# Altium schematic symbol library MY.SchLib: 652 symbols (part 7 of 7)
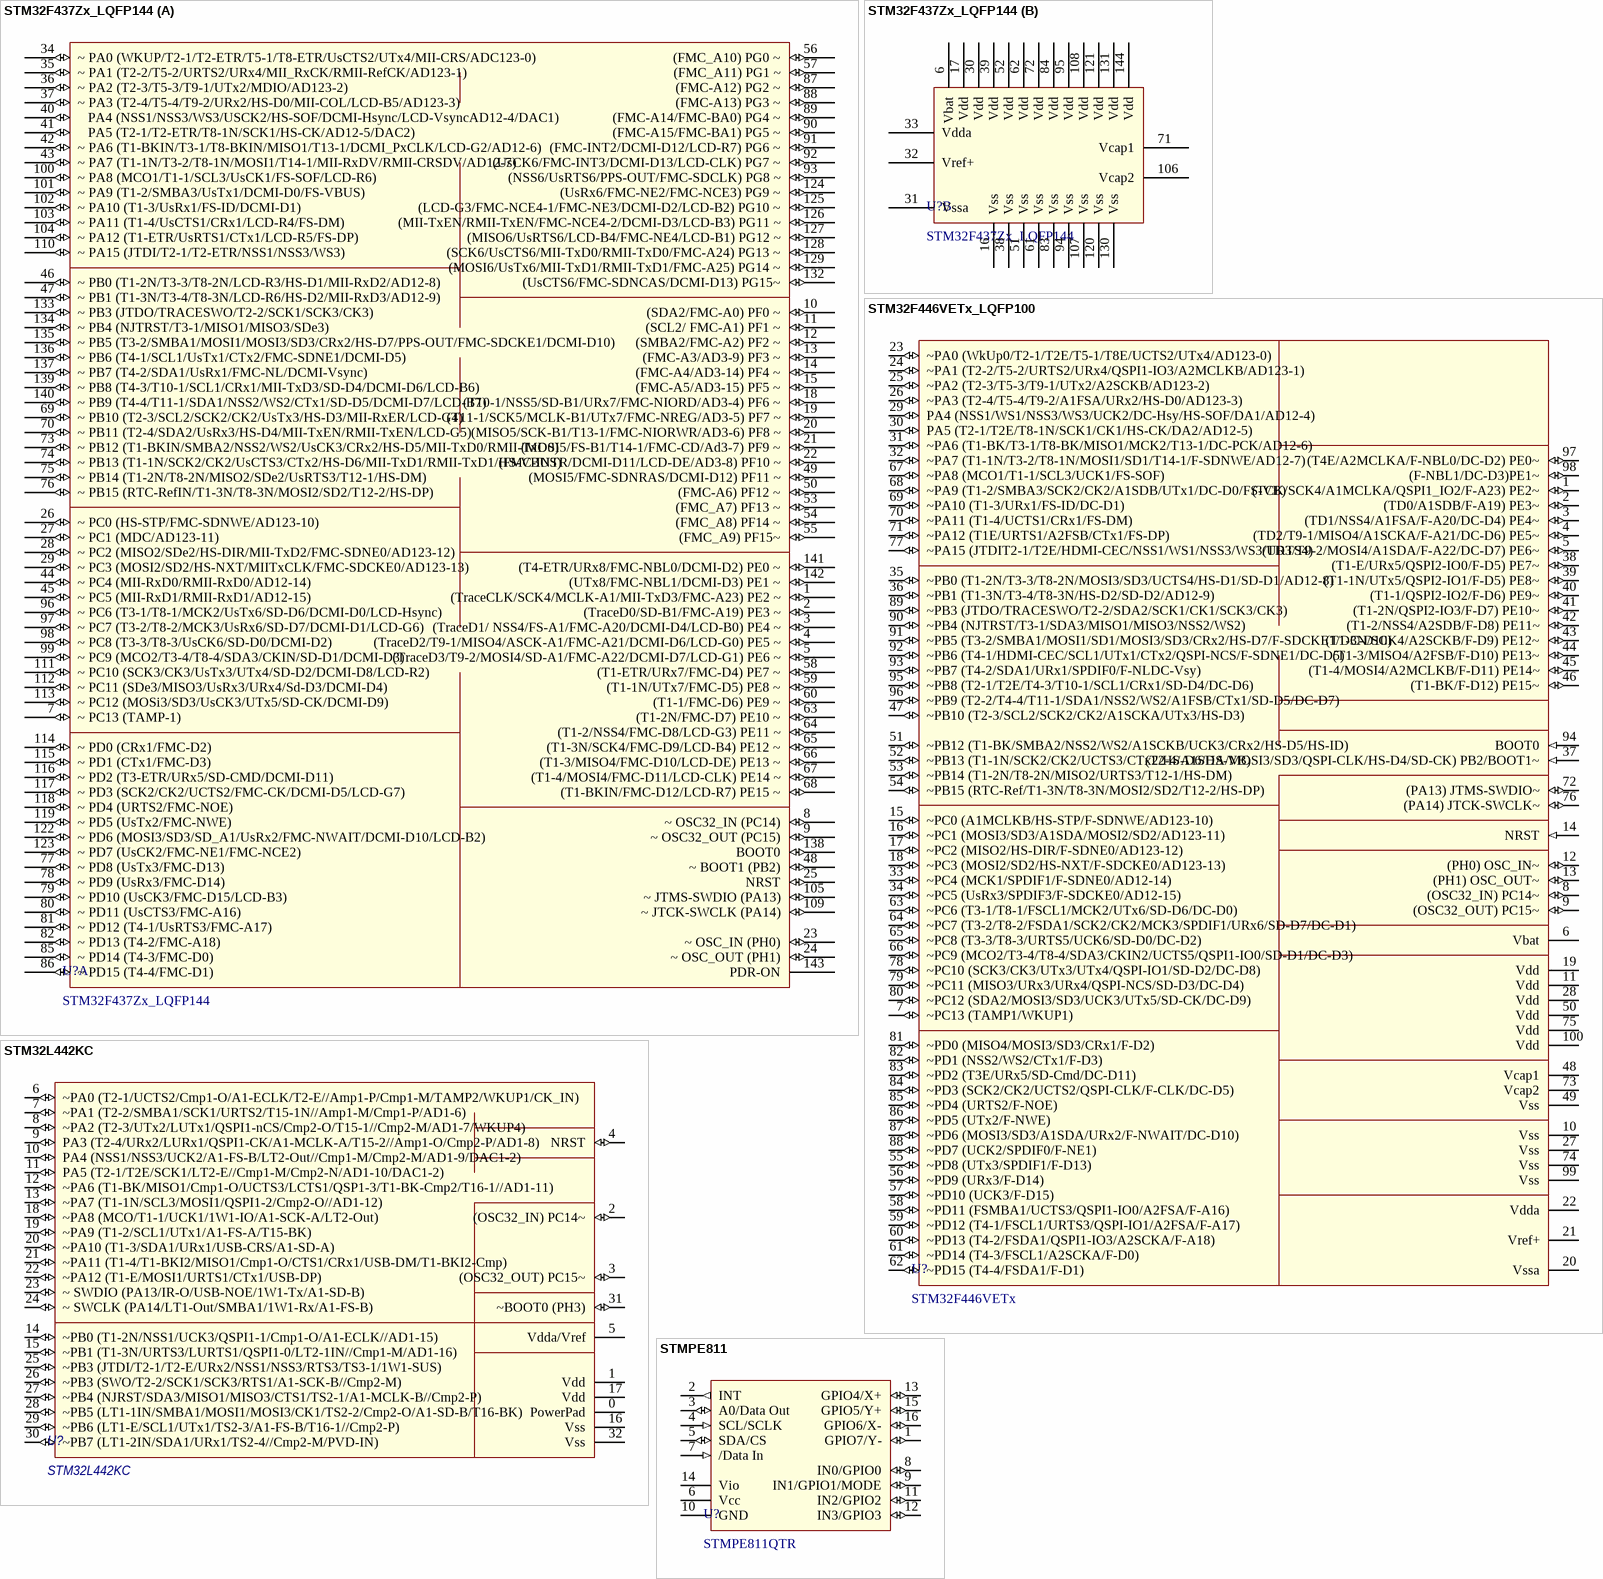
[diagram p47: symbols STM32F437Zx_LQFP144 to STMPE811]

## STM32F446VETx_LQFP100
designator U?, comment STM32F446VETx
HelpURL: L:\Dev\Техническая документация\Микроконтроллеры\ST\4xx\446\STM32F446x_datasheet.pdf; ComponentLink1Description: Datasheet; ComponentLink1URL: L:\Dev\Техническая документация\Микроконтроллеры\ST\4xx\446\STM32F446x_datasheet.pdf; ComponentLink2Description: Reference Manual; ComponentLink2URL: L:\Dev\Техническая документация\Микроконтроллеры\ST\4xx\446\STM32F446x_refmanual_RM0390.pdf
footprint LQFP100_UNICONT
pins: 1 (TCK/SCK4/A1MCLKA/QSPI1_IO2/F-A23) PE2~ (io), 2 (TD0/A1SDB/F-A19) PE3~ (io), 3 (TD1/NSS4/A1FSA/F-A20/DC-D4) PE4~ (io), 4 (TD2/T9-1/MISO4/A1SCKA/F-A21/DC-D6) PE5~ (io), 5 (TD3/T9-2/MOSI4/A1SDA/F-A22/DC-D7) PE6~ (io), 6 Vbat (power), 7 ~PC13 (TAMP1/WKUP1) (io), 8 (OSC32_IN) PC14~ (io), 9 (OSC32_OUT) PC15~ (io), 10 Vss (power), 11 Vdd (power), 12 (PH0) OSC_IN~ (io), 13 (PH1) OSC_OUT~ (io), 14 NRST (in), 15 ~PC0 (A1MCLKB/HS-STP/F-SDNWE/AD123-10) (io), 16 ~PC1 (MOSI3/SD3/A1SDA/MOSI2/SD2/AD123-11) (io), 17 ~PC2 (MISO2/HS-DIR/F-SDNE0/AD123-12) (io), 18 ~PC3 (MOSI2/SD2/HS-NXT/F-SDCKE0/AD123-13) (io), 19 Vdd (power), 20 Vssa (power), 21 Vref+ (power), 22 Vdda (power), 23 ~PA0 (WkUp0/T2-1/T2E/T5-1/T8E/UCTS2/UTx4/AD123-0) (io), 24 ~PA1 (T2-2/T5-2/URTS2/URx4/QSPI1-IO3/A2MCLKB/AD123-1) (io), 25 ~PA2 (T2-3/T5-3/T9-1/UTx2/A2SCKB/AD123-2) (io), 26 ~PA3 (T2-4/T5-4/T9-2/A1FSA/URx2/HS-D0/AD123-3) (io), 27 Vss (power), 28 Vdd (power), 29 PA4 (NSS1/WS1/NSS3/WS3/UCK2/DC-Hsy/HS-SOF/DA1/AD12-4) (io), 30 PA5 (T2-1/T2E/T8-1N/SCK1/CK1/HS-CK/DA2/AD12-5) (io), 31 ~PA6 (T1-BK/T3-1/T8-BK/MISO1/MCK2/T13-1/DC-PCK/AD12-6) (io), 32 ~PA7 (T1-1N/T3-2/T8-1N/MOSI1/SD1/T14-1/F-SDNWE/AD12-7) (io), 33 ~PC4 (MCK1/SPDIF1/F-SDNE0/AD12-14) (io), 34 ~PC5 (UsRx3/SPDIF3/F-SDCKE0/AD12-15) (io), 35 ~PB0 (T1-2N/T3-3/T8-2N/MOSI3/SD3/UCTS4/HS-D1/SD-D1/AD12-8) (io), 36 ~PB1 (T1-3N/T3-4/T8-3N/HS-D2/SD-D2/AD12-9) (io), 37 (T2-4/A1SDA/MOSI3/SD3/QSPI-CLK/HS-D4/SD-CK) PB2/BOOT1~ (in), 38 (T1-E/URx5/QSPI2-IO0/F-D5) PE7~ (io), 39 (T1-1N/UTx5/QSPI2-IO1/F-D5) PE8~ (io), 40 (T1-1/QSPI2-IO2/F-D6) PE9~ (io), 41 (T1-2N/QSPI2-IO3/F-D7) PE10~ (io), 42 (T1-2/NSS4/A2SDB/F-D8) PE11~ (io), 43 (T1-3N/SCK4/A2SCKB/F-D9) PE12~ (io), 44 (T1-3/MISO4/A2FSB/F-D10) PE13~ (io), 45 (T1-4/MOSI4/A2MCLKB/F-D11) PE14~ (io), 46 (T1-BK/F-D12) PE15~ (io), 47 ~PB10 (T2-3/SCL2/SCK2/CK2/A1SCKA/UTx3/HS-D3) (io), 48 Vcap1 (power), 49 Vss (power), 50 Vdd (power), 51 ~PB12 (T1-BK/SMBA2/NSS2/WS2/A1SCKB/UCK3/CRx2/HS-D5/HS-ID) (io) "ffgfgg", 52 ~PB13 (T1-1N/SCK2/CK2/UCTS3/CTx2/HS-D6/HS-VB) (io), 53 ~PB14 (T1-2N/T8-2N/MISO2/URTS3/T12-1/HS-DM) (io), 54 ~PB15 (RTC-Ref/T1-3N/T8-3N/MOSI2/SD2/T12-2/HS-DP) (io), 55 ~PD8 (UTx3/SPDIF1/F-D13) (io), 56 ~PD9 (URx3/F-D14) (io), 57 ~PD10 (UCK3/F-D15) (io), 58 ~PD11 (FSMBA1/UCTS3/QSPI1-IO0/A2FSA/F-A16) (io), 59 ~PD12 (T4-1/FSCL1/URTS3/QSPI-IO1/A2FSA/F-A17) (io), 60 ~PD13 (T4-2/FSDA1/QSPI1-IO3/A2SCKA/F-A18) (io), 61 ~PD14 (T4-3/FSCL1/A2SCKA/F-D0) (io), 62 ~PD15 (T4-4/FSDA1/F-D1) (io), 63 ~PC6 (T3-1/T8-1/FSCL1/MCK2/UTx6/SD-D6/DC-D0) (io), 64 ~PC7 (T3-2/T8-2/FSDA1/SCK2/CK2/MCK3/SPDIF1/URx6/SD-D7/DC-D1) (io), 65 ~PC8 (T3-3/T8-3/URTS5/UCK6/SD-D0/DC-D2) (io), 66 ~PC9 (MCO2/T3-4/T8-4/SDA3/CKIN2/UCTS5/QSPI1-IO0/SD-D1/DC-D3) (io), 67 ~PA8 (MCO1/T1-1/SCL3/UCK1/FS-SOF) (io), 68 ~PA9 (T1-2/SMBA3/SCK2/CK2/A1SDB/UTx1/DC-D0/FS-VB) (io), 69 ~PA10 (T1-3/URx1/FS-ID/DC-D1) (io), 70 ~PA11 (T1-4/UCTS1/CRx1/FS-DM) (io), 71 ~PA12 (T1E/URTS1/A2FSB/CTx1/FS-DP) (io), 72 (PA13) JTMS-SWDIO~ (io), 73 Vcap2 (power), 74 Vss (power), 75 Vdd (power), 76 (PA14) JTCK-SWCLK~ (io), 77 ~PA15 (JTDIT2-1/T2E/HDMI-CEC/NSS1/WS1/NSS3/WS3/URTS4) (io), 78 ~PC10 (SCK3/CK3/UTx3/UTx4/QSPI-IO1/SD-D2/DC-D8) (io), 79 ~PC11 (MISO3/URx3/URx4/QSPI-NCS/SD-D3/DC-D4) (io), 80 ~PC12 (SDA2/MOSI3/SD3/UCK3/UTx5/SD-CK/DC-D9) (io), 81 ~PD0 (MISO4/MOSI3/SD3/CRx1/F-D2) (io), 82 ~PD1 (NSS2/WS2/CTx1/F-D3) (io), 83 ~PD2 (T3E/URx5/SD-Cmd/DC-D11) (io), 84 ~PD3 (SCK2/CK2/UCTS2/QSPI-CLK/F-CLK/DC-D5) (io), 85 ~PD4 (URTS2/F-NOE) (io), 86 ~PD5 (UTx2/F-NWE) (io), 87 ~PD6 (MOSI3/SD3/A1SDA/URx2/F-NWAIT/DC-D10) (io), 88 ~PD7 (UCK2/SPDIF0/F-NE1) (io), 89 ~PB3 (JTDO/TRACESWO/T2-2/SDA2/SCK1/CK1/SCK3/CK3) (io), 90 ~PB4 (NJTRST/T3-1/SDA3/MISO1/MISO3/NSS2/WS2) (io), 91 ~PB5 (T3-2/SMBA1/MOSI1/SD1/MOSI3/SD3/CRx2/HS-D7/F-SDCKE1/DC-D10) (io), 92 ~PB6 (T4-1/HDMI-CEC/SCL1/UTx1/CTx2/QSPI-NCS/F-SDNE1/DC-D5) (io), 93 ~PB7 (T4-2/SDA1/URx1/SPDIF0/F-NLDC-Vsy) (io), 94 BOOT0 (in), 95 ~PB8 (T2-1/T2E/T4-3/T10-1/SCL1/CRx1/SD-D4/DC-D6) (io), 96 ~PB9 (T2-2/T4-4/T11-1/SDA1/NSS2/WS2/A1FSB/CTx1/SD-D5/DC-D7) (io), 97 (T4E/A2MCLKA/F-NBL0/DC-D2) PE0~ (io), 98 (F-NBL1/DC-D3)PE1~ (io), 99 Vss (power), 100 Vdd (power)

## STM32L442KC
designator U?
HelpURL: L:\Dev\Техническая документация\Микроконтроллеры\ST\L4xx\STM32L442KC\STM32L442KC_datasheet.pdf; ComponentLink1Description: Datasheet; ComponentLink1URL: L:\Dev\Техническая документация\Микроконтроллеры\ST\L4xx\STM32L442KC\STM32L442KC_datasheet.pdf; ComponentLink2Description: Reference Manual; ComponentLink2URL: L:\Dev\Техническая документация\Микроконтроллеры\ST\L4xx\STM32L442KC\STM32L442KC_RM0393_ref_manual.pdf
footprint UFQFN32_127P600-8N
pins: 0 PowerPad, 1 Vdd (power), 2 (OSC32_IN) PC14~ (io), 3 (OSC32_OUT) PC15~ (io), 4 NRST (io), 5 Vdda/Vref (power), 6 ~PA0 (T2-1/UCTS2/Cmp1-O/A1-ECLK/T2-E//Amp1-P/Cmp1-M/TAMP2/WKUP1/CK_IN) (io), 7 ~PA1 (T2-2/SMBA1/SCK1/URTS2/T15-1N//Amp1-M/Cmp1-P/AD1-6) (io), 8 ~PA2 (T2-3/UTx2/LUTx1/QSPI1-nCS/Cmp2-O/T15-1//Cmp2-M/AD1-7/WKUP4) (io), 9 PA3 (T2-4/URx2/LURx1/QSPI1-CK/A1-MCLK-A/T15-2//Amp1-O/Cmp2-P/AD1-8) (io), 10 PA4 (NSS1/NSS3/UCK2/A1-FS-B/LT2-Out//Cmp1-M/Cmp2-M/AD1-9/DAC1-2) (io), 11 PA5 (T2-1/T2E/SCK1/LT2-E//Cmp1-M/Cmp2-N/AD1-10/DAC1-2) (io), 12 ~PA6 (T1-BK/MISO1/Cmp1-O/UCTS3/LCTS1/QSP1-3/T1-BK-Cmp2/T16-1//AD1-11) (io), 13 ~PA7 (T1-1N/SCL3/MOSI1/QSPI1-2/Cmp2-O//AD1-12) (io), 14 ~PB0 (T1-2N/NSS1/UCK3/QSPI1-1/Cmp1-O/A1-ECLK//AD1-15) (io), 15 ~PB1 (T1-3N/URTS3/LURTS1/QSPI1-0/LT2-1IN//Cmp1-M/AD1-16) (io), 16 Vss (power), 17 Vdd (power), 18 ~PA8 (MCO/T1-1/UCK1/1W1-IO/A1-SCK-A/LT2-Out) (io), 19 ~PA9 (T1-2/SCL1/UTx1/A1-FS-A/T15-BK) (io), 20 ~PA10 (T1-3/SDA1/URx1/USB-CRS/A1-SD-A) (io), 21 ~PA11 (T1-4/T1-BKI2/MISO1/Cmp1-O/CTS1/CRx1/USB-DM/T1-BKI2-Cmp) (io), 22 ~PA12 (T1-E/MOSI1/URTS1/CTx1/USB-DP) (io), 23 ~ SWDIO (PA13/IR-O/USB-NOE/1W1-Tx/A1-SD-B) (io), 24 ~ SWCLK (PA14/LT1-Out/SMBA1/1W1-Rx/A1-FS-B) (io), 25 ~PB3 (JTDI/T2-1/T2-E/URx2/NSS1/NSS3/RTS3/TS3-1/1W1-SUS) (io), 26 ~PB3 (SWO/T2-2/SCK1/SCK3/RTS1/A1-SCK-B//Cmp2-M) (io), 27 ~PB4 (NJRST/SDA3/MISO1/MISO3/CTS1/TS2-1/A1-MCLK-B//Cmp2-P) (io), 28 ~PB5 (LT1-1IN/SMBA1/MOSI1/MOSI3/CK1/TS2-2/Cmp2-O/A1-SD-B/T16-BK) (io), 29 ~PB6 (LT1-E/SCL1/UTx1/TS2-3/A1-FS-B/T16-1//Cmp2-P) (io), 30 ~PB7 (LT1-2IN/SDA1/URx1/TS2-4//Cmp2-M/PVD-IN) (io), 31 ~BOOT0 (PH3) (io), 32 Vss (power)

## STMPE811
designator U?, comment STMPE811QTR
footprint QFN16_ST (QFN, 16-Leads, Body 3,00x3,00mm, Pitch 0,50mm, Thermal Pad 1,80x1,80mm, IPC High Density)
pins: 1 GPIO7/Y- (io), 2 INT (out), 3 A0/Data Out (io), 4 SCL/SCLK (in), 5 SDA/CS (io), 6 Vcc (power), 7 /Data In (in), 8 IN0/GPIO0 (io), 9 IN1/GPIO1/MODE (io), 10 GND (power), 11 IN2/GPIO2 (io), 12 IN3/GPIO3 (io), 13 GPIO4/X+ (io), 14 Vio (power), 15 GPIO5/Y+ (io), 16 GPIO6/X- (io)

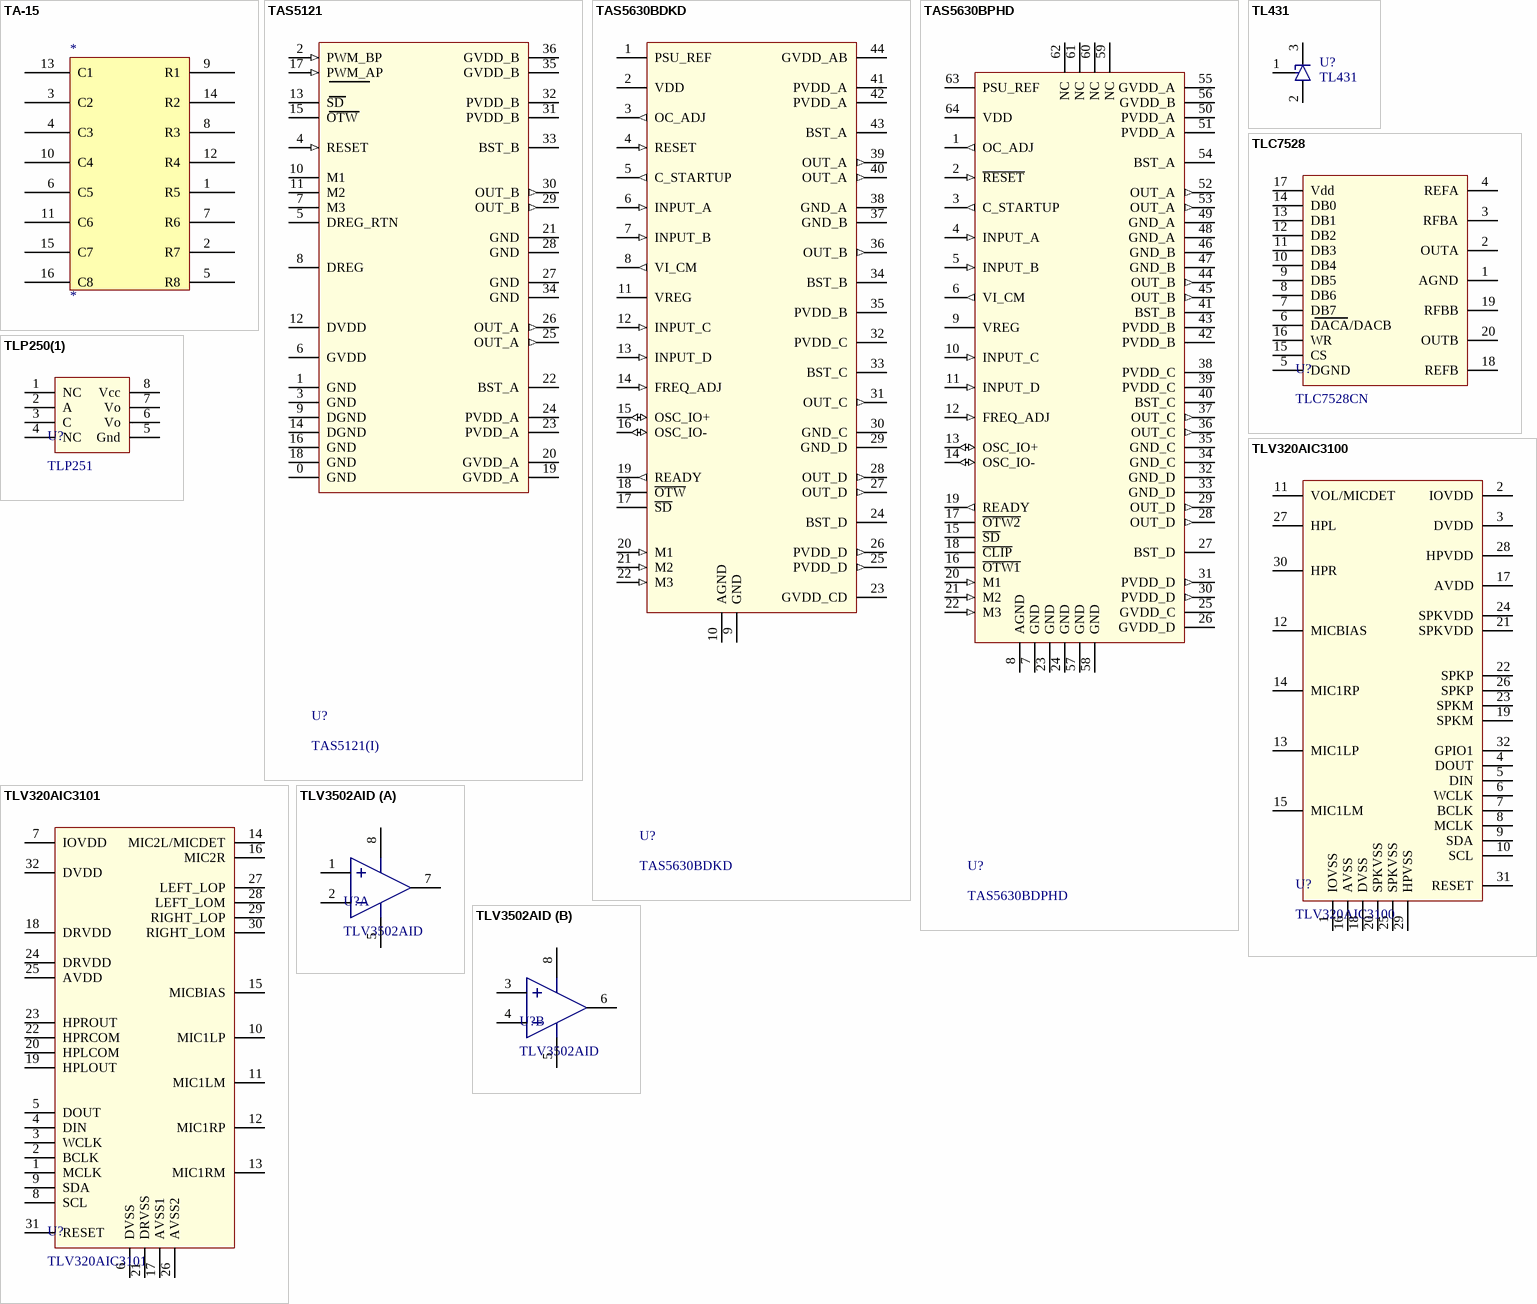
[diagram p38: symbols TA-15 to TLV3502AID]

## TA-15
designator *
footprint TA-15
pins: 1 R5, 2 R7, 3 C2, 4 C3, 5 R8, 6 C5, 7 R6, 8 R3, 9 R1, 10 C4, 11 C6, 12 R4, 13 C1, 14 R2, 15 C7, 16 C8
1 alternate drawing of the same symbol

## TAS5121
designator U?, comment TAS5121(I)
footprint HSSOP36
pins: 0 GND (power), 1 GND (power), 2 PWM_BP (in), 3 GND (power), 4 RESET (in), 5 DREG_RTN (power), 6 GVDD (power), 7 M3 (power), 8 DREG (power), 9 DGND (power), 10 M1 (power), 11 M2 (power), 12 DVDD (power), 13 SD (oc), 14 DGND (power), 15 OTW (oc), 16 GND (power), 17 PWM_AP (in), 18 GND (power), 19 GVDD_A (power), 20 GVDD_A (power), 21 GND (power), 22 BST_A (power), 23 PVDD_A (power), 24 PVDD_A (power), 25 OUT_A (out), 26 OUT_A (out), 27 GND (power), 28 GND (power), 29 OUT_B (out), 30 OUT_B (out), 31 PVDD_B (power), 32 PVDD_B (power), 33 BST_B (power), 34 GND (power), 35 GVDD_B (power), 36 GVDD_B (power)

## TAS5630BDKD
designator U?
footprint HSSOP44
pins: 1 PSU_REF (power), 2 VDD (power), 3 OC_ADJ (out), 4 RESET (in), 5 C_STARTUP (out), 6 INPUT_A (in), 7 INPUT_B (in), 8 VI_CM (out), 9 GND (power), 10 AGND (power), 11 VREG (power), 12 INPUT_C (in), 13 INPUT_D (in), 14 FREQ_ADJ (in), 15 OSC_IO+ (io), 16 OSC_IO- (io), 17 ~{SD} (oc), 18 ~{OTW} (oc), 19 READY (out), 20 M1 (in), 21 M2 (in), 22 M3 (in), 23 GVDD_CD (power), 24 BST_D (power), 25 PVDD_D (out), 26 PVDD_D (out), 27 OUT_D (out), 28 OUT_D (out), 29 GND_D (power), 30 GND_C (power), 31 OUT_C (out), 32 PVDD_C (power), 33 BST_C (power), 34 BST_B (power), 35 PVDD_B (power), 36 OUT_B (out), 37 GND_B (power), 38 GND_A (power), 39 OUT_A (out), 40 OUT_A (out), 41 PVDD_A (power), 42 PVDD_A (power), 43 BST_A (power), 44 GVDD_AB (power)

## TAS5630BPHD
designator U?, comment TAS5630BDPHD
footprint PQFP64
pins: 1 OC_ADJ (out), 2 ~{RESET} (in), 3 C_STARTUP (out), 4 INPUT_A (in), 5 INPUT_B (in), 6 VI_CM (out), 7 GND (power), 8 AGND (power), 9 VREG (power), 10 INPUT_C (in), 11 INPUT_D (in), 12 FREQ_ADJ (in), 13 OSC_IO+ (io), 14 OSC_IO- (io), 15 ~{SD} (oc), 16 ~{OTW1} (oc), 17 ~{OTW2} (oc), 18 ~{CLIP} (oc), 19 READY (out), 20 M1 (in), 21 M2 (in), 22 M3 (in), 23 GND (power), 24 GND (power), 25 GVDD_C (power), 26 GVDD_D (power), 27 BST_D (power), 28 OUT_D (out), 29 OUT_D (out), 30 PVDD_D (out), 31 PVDD_D (out), 32 GND_D (power), 33 GND_D (power), 34 GND_C (power), 35 GND_C (power), 36 OUT_C (out), 37 OUT_C (out), 38 PVDD_C (power), 39 PVDD_C (power), 40 BST_C (power), 41 BST_B (power), 42 PVDD_B (power), 43 PVDD_B (power), 44 OUT_B (out), 45 OUT_B (out), 46 GND_B (power), 47 GND_B (power), 48 GND_A (power), 49 GND_A (power), 50 PVDD_A (power), 51 PVDD_A (power), 52 OUT_A (out), 53 OUT_A (out), 54 BST_A (power), 55 GVDD_A (power), 56 GVDD_B (power), 57 GND (power), 58 GND (power), 59 NC, 60 NC, 61 NC, 62 NC, 63 PSU_REF (power), 64 VDD (power)

## TL431
designator U?
footprint TO-92
pins: 1, 2, 3

## TLC7528
designator U?, comment TLC7528CN
footprint DIP20
pins: 1 AGND, 2 OUTA, 3 RFBA, 4 REFA, 5 DGND, 6 DACA/DACB, 7 DB7, 8 DB6, 9 DB5, 10 DB4, 11 DB3, 12 DB2, 13 DB1, 14 DB0, 15 CS, 16 WR, 17 Vdd, 18 REFB, 19 RFBB, 20 OUTB

## TLP250(1)
designator U?, comment TLP251
footprint DIP8
pins: 1 NC, 2 A, 3 C, 4 NC, 5 Gnd, 6 Vo, 7 Vo, 8 Vcc

## TLV320AIC3100
designator U?
footprint PQFP-N32
pins: 1 IOVSS, 2 IOVDD, 3 DVDD, 4 DOUT, 5 DIN, 6 WCLK, 7 BCLK, 8 MCLK, 9 SDA, 10 SCL, 11 VOL/MICDET, 12 MICBIAS, 13 MIC1LP, 14 MIC1RP, 15 MIC1LM, 16 AVSS, 17 AVDD, 18 DVSS, 19 SPKM, 20 SPKVSS, 21 SPKVDD, 22 SPKP, 23 SPKM, 24 SPKVDD, 25 SPKVSS, 26 SPKP, 27 HPL, 28 HPVDD, 29 HPVSS, 30 HPR, 31 RESET, 32 GPIO1

## TLV320AIC3101
designator U?
footprint PQFP-N32
pins: 0 (power), 1 MCLK, 2 BCLK, 3 WCLK, 4 DIN, 5 DOUT, 6 DVSS, 7 IOVDD, 8 SCL, 9 SDA, 10 MIC1LP, 11 MIC1LM, 12 MIC1RP, 13 MIC1RM, 14 MIC2L/MICDET, 15 MICBIAS, 16 MIC2R, 17 AVSS1, 18 DRVDD, 19 HPLOUT, 20 HPLCOM, 21 DRVSS, 22 HPRCOM, 23 HPROUT, 24 DRVDD, 25 AVDD, 26 AVSS2, 27 LEFT_LOP, 28 LEFT_LOM, 29 RIGHT_LOP, 30 RIGHT_LOM, 31 RESET, 32 DVDD

## TLV3502AID
designator U?
footprint SO8
part A pins: 1 +IN1 (power), 2 -IN1 (power), 5 GND (power), 7 OUT1 (power), 8 Vcc (power)
part B pins: 3 +IN2 (power), 4 -IN2 (power), 5 GND (power), 6 OUT2 (power), 8 Vcc (power)

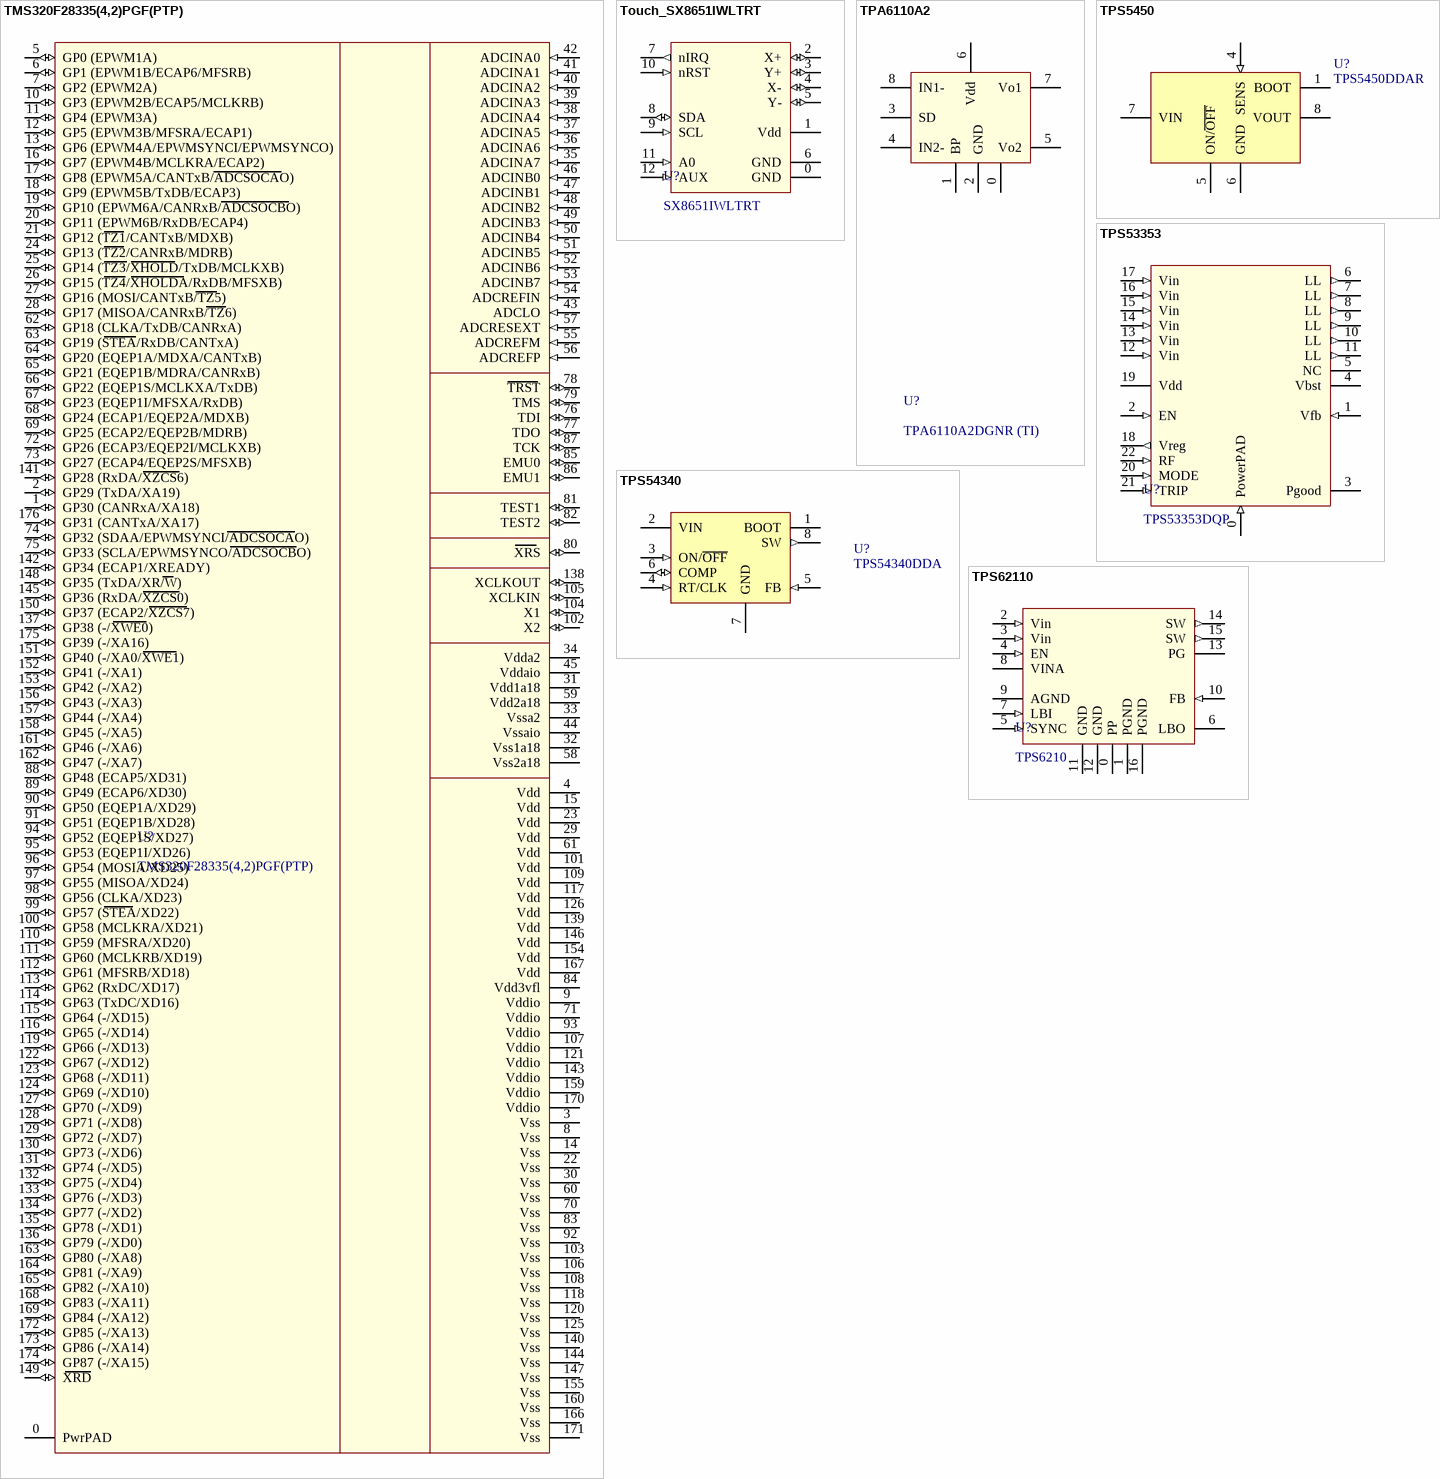
[diagram p39: symbols TMS320F28335(4,2)PGF(PTP) to TPS62110]

## TMS320F28335(4,2)PGF(PTP)
designator U?
HelpURL: L:\Dev\Техническая документация\Микроконтроллеры\TI\Delfino\TMS320F28335(4,2)\tms320f28335_manual.pdf
footprint PQFP-176
pins: 0 PwrPAD (power), 1 GP30 (CANRxA/XA18) (io), 2 GP29 (TxDA/XA19) (io), 3 Vss (power), 4 Vdd (power), 5 GP0 (EPWM1A) (io), 6 GP1 (EPWM1B/ECAP6/MFSRB) (io), 7 GP2 (EPWM2A) (io), 8 Vss (power), 9 Vddio (power), 10 GP3 (EPWM2B/ECAP5/MCLKRB) (io), 11 GP4 (EPWM3A) (io), 12 GP5 (EPWM3B/MFSRA/ECAP1) (io), 13 GP6 (EPWM4A/EPWMSYNCI/EPWMSYNCO) (io), 14 Vss (power), 15 Vdd (power), 16 GP7 (EPWM4B/MCLKRA/ECAP2) (io), 17 GP8 (EPWM5A/CANTxB/ADCSOCAO) (io), 18 GP9 (EPWM5B/TxDB/ECAP3) (io), 19 GP10 (EPWM6A/CANRxB/ADCSOCBO) (io), 20 GP11 (EPWM6B/RxDB/ECAP4) (io), 21 GP12 (TZ1/CANTxB/MDXB) (io), 22 Vss (power), 23 Vdd (power), 24 GP13 (TZ2/CANRxB/MDRB) (io), 25 GP14 (TZ3/XHOLD/TxDB/MCLKXB) (io), 26 GP15 (TZ4/XHOLDA/RxDB/MFSXB) (io), 27 GP16 (MOSI/CANTxB/TZ5) (io), 28 GP17 (MISOA/CANRxB/TZ6) (io), 29 Vdd (power), 30 Vss (power), 31 Vdd1a18 (power), 32 Vss1a18 (power), 33 Vssa2 (power), 34 Vdda2 (power), 35 ADCINA7 (in), 36 ADCINA6 (in), 37 ADCINA5 (in), 38 ADCINA4 (in), 39 ADCINA3 (in), 40 ADCINA2 (in), 41 ADCINA1 (in), 42 ADCINA0 (in), 43 ADCLO (in), 44 Vssaio (power), 45 Vddaio (power), 46 ADCINB0 (in), 47 ADCINB1 (in), 48 ADCINB2 (in), 49 ADCINB3 (in), 50 ADCINB4 (in), 51 ADCINB5 (in), 52 ADCINB6 (in), 53 ADCINB7 (in), 54 ADCREFIN (in), 55 ADCREFM (in), 56 ADCREFP (in), 57 ADCRESEXT (in), 58 Vss2a18 (power), 59 Vdd2a18 (power), 60 Vss (power), 61 Vdd (power), 62 GP18 (CLKA/TxDB/CANRxA) (io), 63 GP19 (STEA/RxDB/CANTxA) (io), 64 GP20 (EQEP1A/MDXA/CANTxB) (io), 65 GP21 (EQEP1B/MDRA/CANRxB) (io), 66 GP22 (EQEP1S/MCLKXA/TxDB) (io), 67 GP23 (EQEP1I/MFSXA/RxDB) (io), 68 GP24 (ECAP1/EQEP2A/MDXB) (io), 69 GP25 (ECAP2/EQEP2B/MDRB) (io), 70 Vss (power), 71 Vddio (power), 72 GP26 (ECAP3/EQEP2I/MCLKXB) (io), 73 GP27 (ECAP4/EQEP2S/MFSXB) (io), 74 GP32 (SDAA/EPWMSYNCI/ADCSOCAO) (io), 75 GP33 (SCLA/EPWMSYNCO/ADCSOCBO) (io), 76 TDI (io), 77 TDO (io), 78 TRST (io), 79 TMS (io), 80 XRS (io), 81 TEST1 (io), 82 TEST2 (io), 83 Vss (power), 84 Vdd3vfl (power), 85 EMU0 (io), 86 EMU1 (io), 87 TCK (io), 88 GP48 (ECAP5/XD31) (io), 89 GP49 (ECAP6/XD30) (io), 90 GP50 (EQEP1A/XD29) (io), 91 GP51 (EQEP1B/XD28) (io), 92 Vss (power), 93 Vddio (power), 94 GP52 (EQEP1S/XD27) (io), 95 GP53 (EQEP1I/XD26) (io), 96 GP54 (MOSIA/XD25) (io), 97 GP55 (MISOA/XD24) (io), 98 GP56 (CLKA/XD23) (io), 99 GP57 (STEA/XD22) (io), 100 GP58 (MCLKRA/XD21) (io), 101 Vdd (power), 102 X2 (io), 103 Vss (power), 104 X1 (io), 105 XCLKIN (io), 106 Vss (power), 107 Vddio (power), 108 Vss (power), 109 Vdd (power), 110 GP59 (MFSRA/XD20) (io), 111 GP60 (MCLKRB/XD19) (io), 112 GP61 (MFSRB/XD18) (io), 113 GP62 (RxDC/XD17) (io), 114 GP63 (TxDC/XD16) (io), 115 GP64 (-/XD15) (io), 116 GP65 (-/XD14) (io), 117 Vdd (power), 118 Vss (power), 119 GP66 (-/XD13) (io), 120 Vss (power), 121 Vddio (power), 122 GP67 (-/XD12) (io), 123 GP68 (-/XD11) (io), 124 GP69 (-/XD10) (io), 125 Vss (power), 126 Vdd (power), 127 GP70 (-/XD9) (io), 128 GP71 (-/XD8) (io), 129 GP72 (-/XD7) (io), 130 GP73 (-/XD6) (io), 131 GP74 (-/XD5) (io), 132 GP75 (-/XD4) (io), 133 GP76 (-/XD3) (io), 134 GP77 (-/XD2) (io), 135 GP78 (-/XD1) (io), 136 GP79 (-/XD0) (io), 137 GP38 (-/XWE0) (io), 138 XCLKOUT (io), 139 Vdd (power), 140 Vss (power), 141 GP28 (RxDA/XZCS6) (io), 142 GP34 (ECAP1/XREADY) (io), 143 Vddio (power), 144 Vss (power), 145 GP36 (RxDA/XZCS0) (io), 146 Vdd (power), 147 Vss (power), 148 GP35 (TxDA/XR/W) (io), 149 XRD (io), 150 GP37 (ECAP2/XZCS7) (io), 151 GP40 (-/XA0/XWE1) (io), 152 GP41 (-/XA1) (io), 153 GP42 (-/XA2) (io), 154 Vdd (power), 155 Vss (power), 156 GP43 (-/XA3) (io), 157 GP44 (-/XA4) (io), 158 GP45 (-/XA5) (io), 159 Vddio (power), 160 Vss (power), 161 GP46 (-/XA6) (io), 162 GP47 (-/XA7) (io), 163 GP80 (-/XA8) (io), 164 GP81 (-/XA9) (io), 165 GP82 (-/XA10) (io), 166 Vss (power), 167 Vdd (power), 168 GP83 (-/XA11) (io), 169 GP84 (-/XA12) (io), 170 Vddio (power), 171 Vss (power), 172 GP85 (-/XA13) (io), 173 GP86 (-/XA14) (io), 174 GP87 (-/XA15) (io), 175 GP39 (-/XA16) (io), 176 GP31 (CANTxA/XA17) (io)

## Touch_SX8651IWLTRT
designator U?, comment SX8651IWLTRT
footprint DFN12_7P600-8N
pins: 0 GND (power), 1 Vdd (power), 2 X+ (io), 3 Y+ (io), 4 X- (io), 5 Y- (io), 6 GND (power), 7 nIRQ (out), 8 SDA (io), 9 SCL (in), 10 nRST (in), 11 A0 (in), 12 AUX (in)

## TPA6110A2
designator U?, comment TPA6110A2DGNR (TI)
analog: LM4881M (NSC)
footprint MSOP8+PP
pins: 0 (power), 1 BP (power), 2 GND (power), 3 SD (power), 4 IN2- (power), 5 Vo2 (power), 6 Vdd (power), 7 Vo1 (power), 8 IN1- (power)

## TPS5450
designator U?, comment TPS5450DDAR
DC/DC voltage regulator
footprint SO8 _power
pins: 1 BOOT, 4 SENS (in), 5 ON/~{OFF}, 6 GND (power), 7 VIN (power), 8 VOUT (power)

## TPS53353
designator U?, comment TPS53353DQP
footprint QFN/SON22
pins: 0 PowerPAD (in), 1 Vfb (in), 2 EN (in), 3 Pgood (oc), 4 Vbst (power), 5 NC, 6 LL (out), 7 LL (out), 8 LL (out), 9 LL (out), 10 LL (out), 11 LL (out), 12 Vin (in), 13 Vin (in), 14 Vin (in), 15 Vin (in), 16 Vin (in), 17 Vin (in), 18 Vreg (out), 19 Vdd (power), 20 MODE (in), 21 TRIP (in), 22 RF (in)

## TPS54340
designator U?, comment TPS54340DDA
DC/DC voltage regulator
footprint SO8 _power
pins: 1 BOOT (power), 2 VIN (power), 3 ON/~{OFF} (in), 4 RT/CLK (in), 5 FB (in), 6 COMP (io), 7 GND (power), 8 SW (out)

## TPS62110
designator U?, comment TPS6210
footprint PVQFN_(TI)
pins: 0 PP, 1 PGND (power), 2 Vin (in), 3 Vin (in), 4 EN (in), 5 SYNC (in), 6 LBO (oc), 7 LBI (in), 8 VINA (power), 9 AGND (power), 10 FB (in), 11 GND (power), 12 GND (power), 13 PG (oc), 14 SW (out), 15 SW (out), 16 PGND (power)

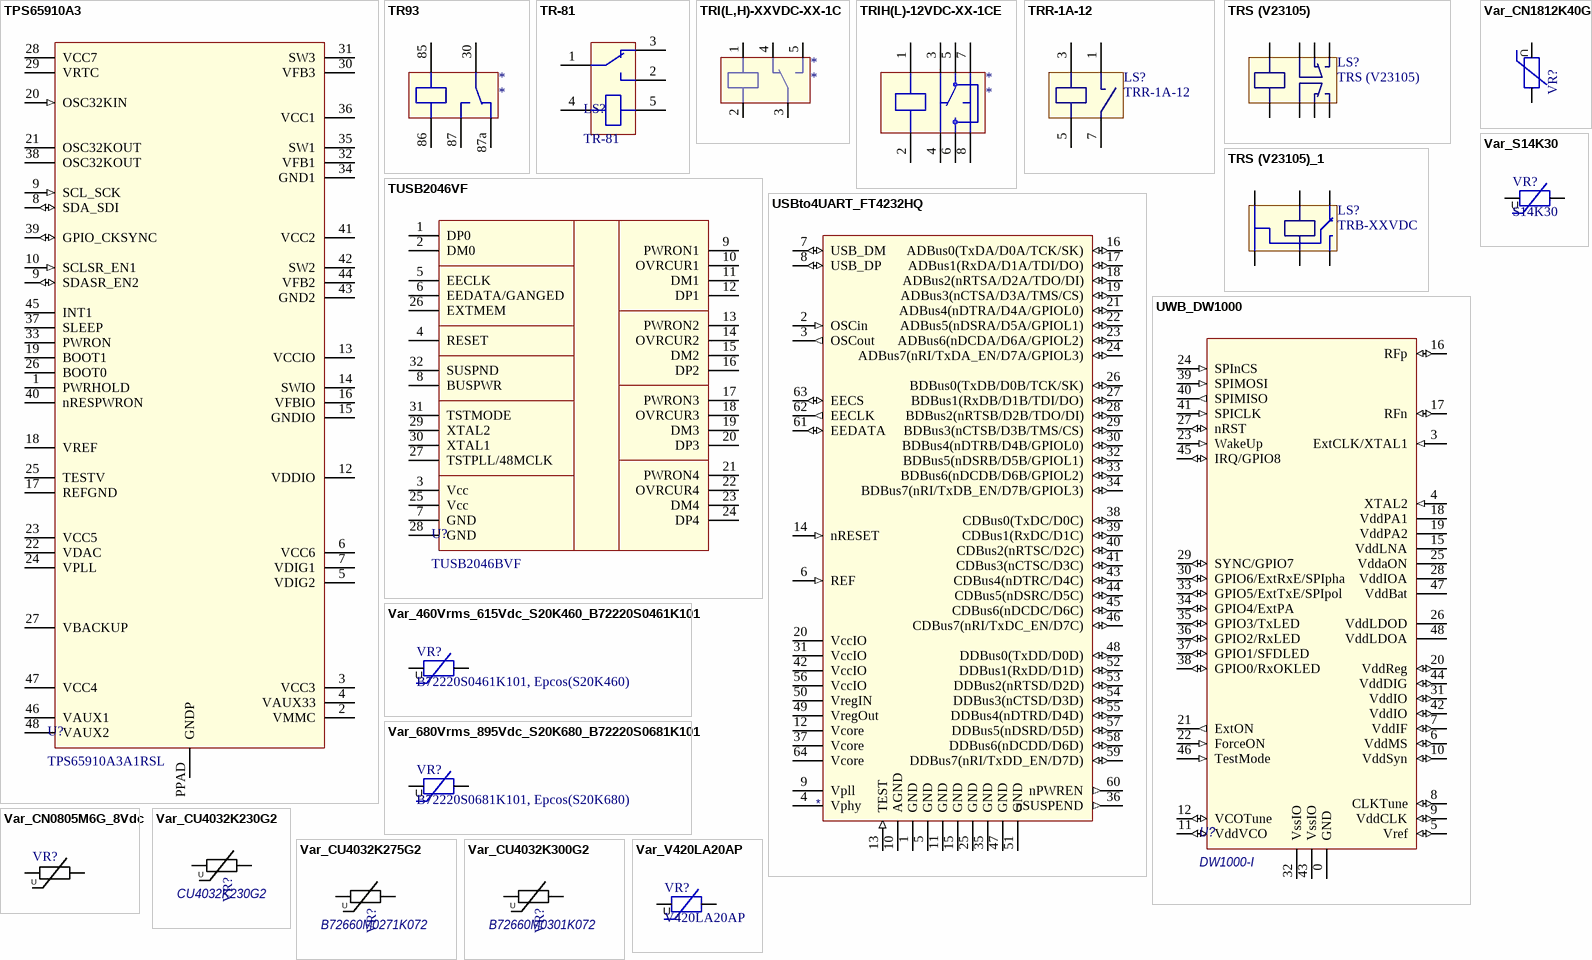
[diagram p40: symbols TPS65910A3 to Var_V420LA20AP]

## TPS65910A3
designator U?, comment TPS65910A3A1RSL
footprint U_48_RSL (Footprint not found)
pins: 1 PWRHOLD, 2 VMMC, 3 VCC3, 4 VAUX33, 5 VDIG2, 6 VCC6, 7 VDIG1, 8 SDA_SDI (io), 9 SCL_SCK (in), 9 SDASR_EN2 (io), 10 SCLSR_EN1 (in), 12 VDDIO, 13 VCCIO, 14 SWIO, 15 GNDIO, 16 VFBIO, 17 REFGND (power), 18 VREF, 19 BOOT1, 20 OSC32KIN (in), 21 OSC32KOUT, 22 VDAC (power), 23 VCC5 (power), 24 VPLL (power), 25 TESTV, 26 BOOT0, 27 VBACKUP (power), 28 VCC7 (power), 29 VRTC (power), 30 VFB3, 31 SW3, 32 VFB1, 33 PWRON, 34 GND1, 35 SW1, 36 VCC1, 37 SLEEP, 38 OSC32KOUT, 39 GPIO_CKSYNC (io), 40 nRESPWRON, 41 VCC2, 42 SW2, 43 GND2, 44 VFB2, 45 INT1, 46 VAUX1 (power), 47 VCC4 (power), 48 VAUX2 (power), PPAD GNDP (power)

## TR93
designator *
footprint TR93
pins: 30, 85, 86, 87, 87a

## TR-81
designator LS?
footprint TR-81
pins: 1, 2, 3, 4, 5

## TRI(L,H)-XXVDC-XX-1C
designator *
footprint TRI(L,H)-CH
pins: 1, 2, 3, 4, 5

## TRIH(L)-12VDC-XX-1CE
designator *
footprint TRIH(L)-CE
pins: 1, 2, 3, 4, 5, 6, 7, 8

## TRR-1A-12
designator LS?
footprint TRR-SIP
pins: 1, 3, 5, 7

## TRS (V23105)
designator LS?
footprint TRS (V23105)
pins: 1, 2, 3, 4, 5, 6, 7, 8

## TRS (V23105)_1
designator LS?, comment TRB-XXVDC
footprint TRS (V23105)
pins: 1, 2, 4, 5, 7, 8

## TUSB2046VF
designator U?, comment TUSB2046BVF
footprint TQFP32 (QFP; 32 Leads; Body 7 x 7 mm; Pitch 0.8 mm)
pins: 1 DP0, 2 DM0, 3 Vcc, 4 RESET, 5 EECLK, 6 EEDATA/GANGED, 7 GND, 8 BUSPWR, 9 PWRON1, 10 OVRCUR1, 11 DM1, 12 DP1, 13 PWRON2, 14 OVRCUR2, 15 DM2, 16 DP2, 17 PWRON3, 18 OVRCUR3, 19 DM3, 20 DP3, 21 PWRON4, 22 OVRCUR4, 23 DM4, 24 DP4, 25 Vcc, 26 EXTMEM, 27 TSTPLL/48MCLK, 28 GND, 29 XTAL2, 30 XTAL1, 31 TSTMODE, 32 SUSPND

## USBto4UART_FT4232HQ
designator *  (value not drawn)
pins: 1 GND (power), 2 OSCin (in), 3 OSCout (out), 4 Vphy (power), 5 GND (power), 6 REF (in), 7 USB_DM (io), 8 USB_DP (io), 9 Vpll (power), 10 AGND (power), 11 GND (power), 12 Vcore (power), 13 TEST (in), 14 nRESET (in), 15 GND (power), 16 ADBus0(TxDA/D0A/TCK/SK) (io), 17 ADBus1(RxDA/D1A/TDI/DO) (io), 18 ADBus2(nRTSA/D2A/TDO/DI) (io), 19 ADBus3(nCTSA/D3A/TMS/CS) (io), 20 VccIO (power), 21 ADBus4(nDTRA/D4A/GPIOL0) (io), 22 ADBus5(nDSRA/D5A/GPIOL1) (io), 23 ADBus6(nDCDA/D6A/GPIOL2) (io), 24 ADBus7(nRI/TxDA_EN/D7A/GPIOL3) (io), 25 GND (power), 26 BDBus0(TxDB/D0B/TCK/SK) (io), 27 BDBus1(RxDB/D1B/TDI/DO) (io), 28 BDBus2(nRTSB/D2B/TDO/DI) (io), 29 BDBus3(nCTSB/D3B/TMS/CS) (io), 30 BDBus4(nDTRB/D4B/GPIOL0) (io), 31 VccIO (power), 32 BDBus5(nDSRB/D5B/GPIOL1) (io), 33 BDBus6(nDCDB/D6B/GPIOL2) (io), 34 BDBus7(nRI/TxDB_EN/D7B/GPIOL3) (io), 35 GND (power), 36 nSUSPEND (out), 37 Vcore (power), 38 CDBus0(TxDC/D0C) (io), 39 CDBus1(RxDC/D1C) (io), 40 CDBus2(nRTSC/D2C) (io), 41 CDBus3(nCTSC/D3C) (io), 42 VccIO (power), 43 CDBus4(nDTRC/D4C) (io), 44 CDBus5(nDSRC/D5C) (io), 45 CDBus6(nDCDC/D6C) (io), 46 CDBus7(nRI/TxDC_EN/D7C) (io), 47 GND (power), 48 DDBus0(TxDD/D0D) (io), 49 VregOut (power), 50 VregIN (power), 51 GND (power), 52 DDBus1(RxDD/D1D) (io), 53 DDBus2(nRTSD/D2D) (io), 54 DDBus3(nCTSD/D3D) (io), 55 DDBus4(nDTRD/D4D) (io), 56 VccIO (power), 57 DDBus5(nDSRD/D5D) (io), 58 DDBus6(nDCDD/D6D) (io), 59 DDBus7(nRI/TxDD_EN/D7D) (io), 60 nPWREN (out), 61 EEDATA (io), 62 EECLK (out), 63 EECS (io), 64 Vcore (power)

## UWB_DW1000
designator U?, comment DW1000-I
HelpURL: L:\Dev\Техническая документация\Wireless\UWB\dw1000-product-brief.pdf; ComponentLink2Description: User manual; ComponentLink2URL: L:\Dev\Техническая документация\Wireless\UWB\dw1000_user_manual_2.10.pdf; ComponentLink1Description: Datasheet; ComponentLink1URL: L:\Dev\Техническая документация\Wireless\UWB\dw1000-datasheet-v2.11.pdf; ComponentLink3Description: Hardware Design; ComponentLink3URL: L:\Dev\Техническая документация\Wireless\UWB\aph001_dw1000_hw_design_guide_v1_0.pdf
footprint QFN48_0.4
pins: 0 GND (power), 1 NC hidden, 2 NC hidden, 3 ExtCLK/XTAL1 (in), 4 XTAL2 (in), 5 Vref (io), 6 VddMS (io), 7 VddIF (io), 8 CLKTune (io), 9 VddCLK (io), 10 VddSyn (io), 11 VddVCO (io), 12 VCOTune (io), 13 NC hidden, 14 NC hidden, 15 VddLNA (power), 16 RFp (io), 17 RFn (io), 18 VddPA1 (power), 19 VddPA2 (power), 20 VddReg (io), 21 ExtON (out), 22 ForceON (in), 23 WakeUp (in), 24 SPInCS (in), 25 VddaON (power), 26 VddLDOD (power), 27 nRST (io), 28 VddIOA (power), 29 SYNC/GPIO7 (io), 30 GPIO6/ExtRxE/SPIpha (io), 31 VddIO (io), 32 VssIO (power), 33 GPIO5/ExtTxE/SPIpol (io), 34 GPIO4/ExtPA (io), 35 GPIO3/TxLED (io), 36 GPIO2/RxLED (io), 37 GPIO1/SFDLED (io), 38 GPIO0/RxOKLED (io), 39 SPIMOSI (in), 40 SPIMISO (out), 41 SPICLK (in), 42 VddIO (io), 43 VssIO (power), 44 VddDIG (io), 45 IRQ/GPIO8 (io), 46 TestMode (in), 47 VddBat (power), 48 VddLDOA (power)

## Var_460Vrms_615Vdc_S20K460_B72220S0461K101
designator VR?, comment B72220S0461K101, Epcos(S20K460)
HelpURL: L:\Dev\Техническая документация\Защита цепей\Варисторы\SIOV_Leaded_StandarD_Epcos.pdf
footprint VAR_S20K680
pins: 1, 2
text: U

## Var_680Vrms_895Vdc_S20K680_B72220S0681K101
designator VR?, comment B72220S0681K101, Epcos(S20K680)
HelpURL: L:\Dev\Техническая документация\Защита цепей\Варисторы\SIOV_Leaded_StandarD_Epcos.pdf
footprint VAR_S20K680
pins: 1, 2
text: U

## Var_CN0805M6G_8Vdc
designator VR?, comment CN0805M6G, Epcos  (value not drawn)
Vrms: 6V; Vdc: 8V
footprint 0805R_UNICONT (Rev.1; GSA)
pins: 1, 2
text: U

## Var_CN1812K40G
designator VR?, comment CN1812K40G  (value not drawn)
footprint 1812
pins: 1, 2
text: U

## Var_CU4032K230G2
designator VR?, comment value CU4032K230G2  (hidden comment: B72660M0231K072 (CU4032K230G2), Epcos)
Vrms: 230V; Vdc: 300V; HelpURL: L:\Dev\Техническая документация\Защита цепей\Варисторы\SMD\SIOV_CU_Standard_Epcos.pdf
footprint 4032Var_Unicont
pins: 1, 2
text: U

## Var_CU4032K275G2
designator VR?, comment value B72660M0271K072  (hidden comment: B72660M0271K072 (CU4032K275G2), Epcos)
Vrms: 275V; Vdc: 350V; HelpURL: L:\Dev\Техническая документация\Защита цепей\Варисторы\SMD\SIOV_CU_Standard_Epcos.pdf
footprint 4032Var_Unicont
pins: 1, 2
text: U

## Var_CU4032K300G2
designator VR?, comment value B72660M0301K072  (hidden comment: B72660M0301K072(CU4032K300G2), Epcos)
Vrms: 300V; Vdc: 385V; HelpURL: L:\Dev\Техническая документация\Защита цепей\Варисторы\SMD\SIOV_CU_Standard_Epcos.pdf
footprint 4032Var_Unicont
pins: 1, 2
text: U

## Var_S14K30
designator VR?, comment S14K30
HelpURL: L:\Dev\Техническая документация\Защита цепей\Варисторы\SIOV_Leaded_StandarD_Epcos.pdf
footprint VAR_S14K30
pins: 1, 2
text: U

## Var_V420LA20AP
designator VR?, comment V420LA20AP
Vvar: 612...748; Vac: 420Vac; Vdc: 560Vdc; Energy: 90J; HelpURL: L:\Dev\Техническая документация\Защита цепей\Варисторы\ltl~la.pdf; Price, $: 0.15
footprint VAR_S14K30
pins: 1, 2
text: U

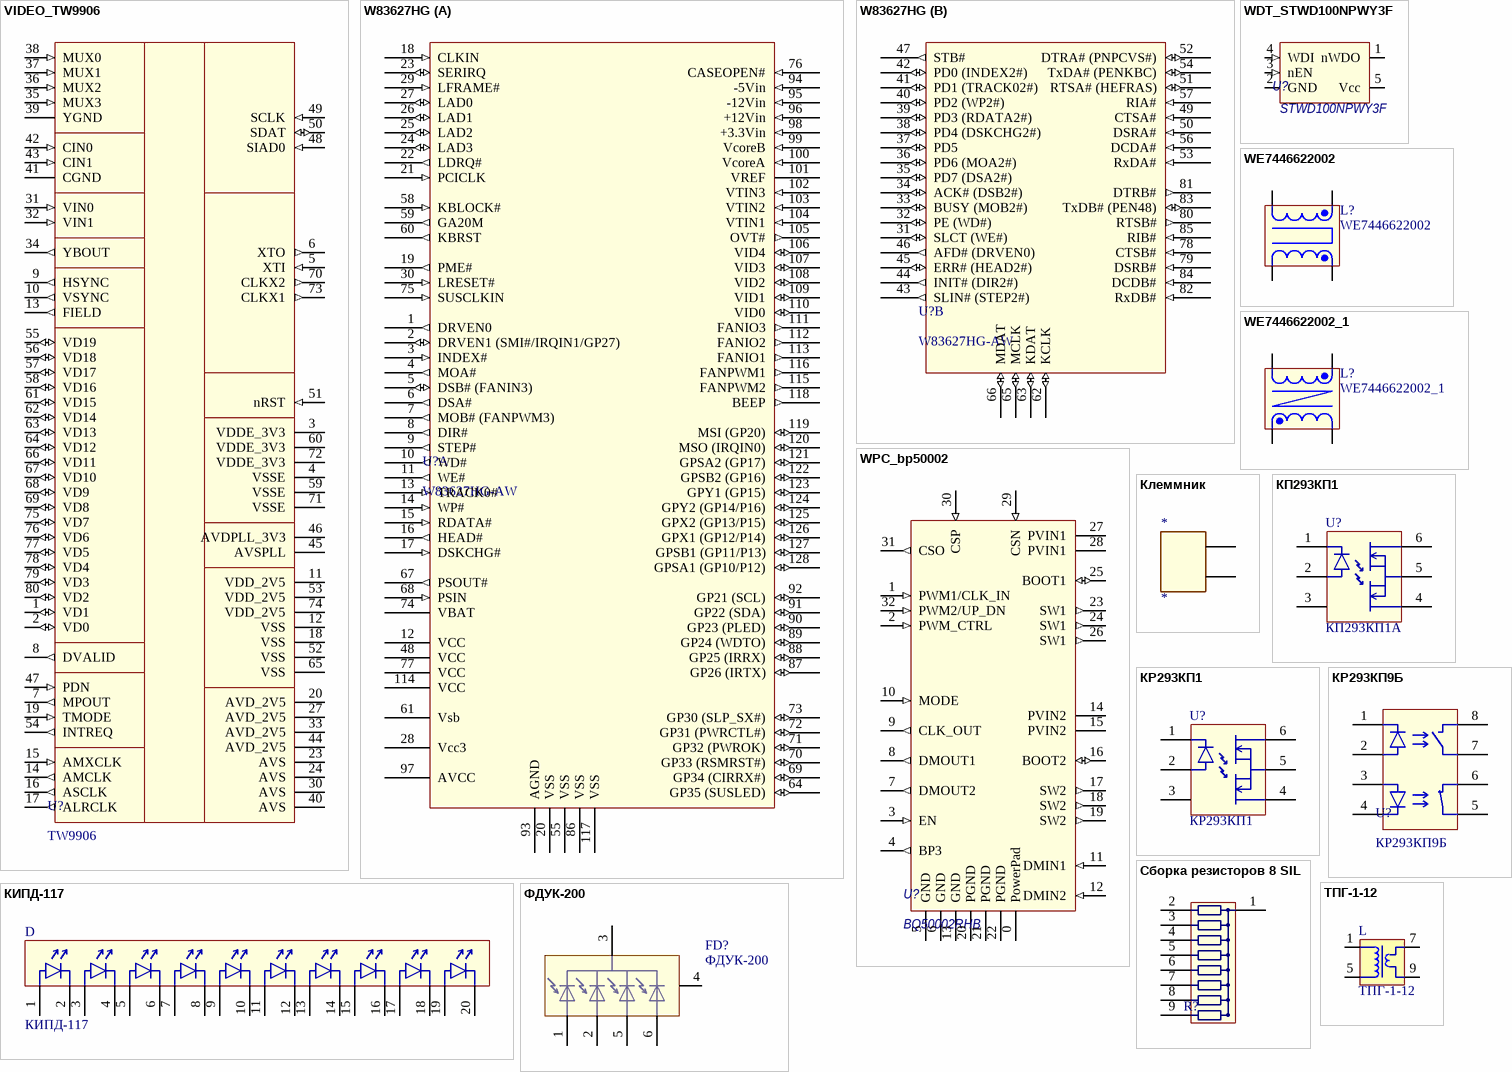
[diagram p41: symbols VIDEO_TW9906 to ФДУК-200]

## VIDEO_TW9906
designator U?, comment TW9906
footprint TQFP80
pins: 1 VD1 (io), 2 VD0 (io), 3 VDDE_3V3, 4 VSSE, 5 XTI (in), 6 XTO (out), 7 MPOUT (out), 8 DVALID (out), 9 HSYNC (out), 10 VSYNC (out), 11 VDD_2V5 (power), 12 VSS, 13 FIELD (out), 14 AMCLK (out), 15 AMXCLK (in), 16 ASCLK (out), 17 ALRCLK (out), 18 VSS, 19 TMODE (in), 20 AVD_2V5 (power), 21 NC hidden, 22 NC hidden, 23 AVS (power), 24 AVS (power), 25 NC hidden, 26 NC hidden, 27 AVD_2V5 (power), 28 NC hidden, 29 NC hidden, 30 AVS, 31 VIN0 (in), 32 VIN1 (in), 33 AVD_2V5, 34 YBOUT (out), 35 MUX3 (in), 36 MUX2 (in), 37 MUX1 (in), 38 MUX0 (in), 39 YGND (power), 40 AVS, 41 CGND (power), 42 CIN0 (in), 43 CIN1 (in), 44 AVD_2V5, 45 AVSPLL, 46 AVDPLL_3V3, 47 PDN (in), 48 SIAD0 (in), 49 SCLK (in), 50 SDAT (io), 51 nRST (in), 52 VSS, 53 VDD_2V5 (power), 54 INTREQ (out), 55 VD19 (io), 56 VD18 (io), 57 VD17 (io), 58 VD16 (io), 59 VSSE, 60 VDDE_3V3, 61 VD15 (io), 62 VD14 (io), 63 VD13 (io), 64 VD12 (io), 65 VSS, 66 VD11 (io), 67 VD10 (io), 68 VD9 (io), 69 VD8 (io), 70 CLKX2 (out), 71 VSSE, 72 VDDE_3V3, 73 CLKX1 (out), 74 VDD_2V5 (power), 75 VD7 (io), 76 VD6 (io), 77 VD5 (io), 78 VD4 (io), 79 VD3 (io), 80 VD2 (io)

## W83627HG
designator U?, comment W83627HG-AW
footprint QFP-128
part A pins: 1 DRVEN0 (out) "FDC Interface", 2 DRVEN1 (SMI#/IRQIN1/GP27) (io) "FDC Interface", 3 INDEX# (in) "FDC Interface", 4 MOA# (out) "FDC Interface", 5 DSB# (FANIN3) (io) "FDC Interface", 6 DSA# (out) "FDC Interface", 7 MOB# (FANPWM3) (out) "FDC Interface", 8 DIR# (out) "FDC Interface", 9 STEP# (out) "FDC Interface", 10 WD# (out) "FDC Interface", 11 WE# (out) "FDC Interface", 12 VCC (power) "+5V", 13 TRACK0# (in) "FDC Interface", 14 WP# (in) "FDC Interface", 15 RDATA# (in) "FDC Interface", 16 HEAD# (out) "FDC Interface", 17 DSKCHG# (in) "FDC Interface", 18 CLKIN (in) "LPC Interface", 19 PME# (out) "LPC Interface", 20 VSS (power) "GND", 21 PCICLK (in) "LPC Interface", 22 LDRQ# (out) "LPC Interface", 23 SERIRQ (io) "LPC Interface", 24 LAD3 (io) "LPC Interface", 25 LAD2 (io) "LPC Interface", 26 LAD1 (io) "LPC Interface", 27 LAD0 (io) "LPC Interface", 28 Vcc3 (power) "3.3V", 29 LFRAME# (in) "LPC Interface", 30 LRESET# (in) "LPC Interface", 48 VCC (power) "+5V", 55 VSS (power) "GND", 58 KBLOCK# (in) "KBC Interface", 59 GA20M (out) "KBC Interface", 60 KBRST (out) "KBC Interface", 61 Vsb (power) "+5Vstb", 64 GP35 (SUSLED) (io) "GPIO3", 67 PSOUT# (out) "ACPI Interface", 68 PSIN (in) "ACPI Interface", 69 GP34 (CIRRX#) (io) "GPIO3", 70 GP33 (RSMRST#) (io) "GPIO3", 71 GP32 (PWROK) (io) "GPIO3", 72 GP31 (PWRCTL#) (io) "GPIO3", 73 GP30 (SLP_SX#) (io) "GPIO3", 74 VBAT (power) "Battery Voltage Input", 75 SUSCLKIN (in) "LPC Interface", 76 CASEOPEN# (in) "Hardware Monitor", 77 VCC (power) "+5V", 86 VSS (power) "GND", 87 GP26 (IRTX) (io) "GPIO2", 88 GP25 (IRRX) (io) "GPIO2", 89 GP24 (WDTO) (io) "GPIO2", 90 GP23 (PLED) (io) "GPIO2", 91 GP22 (SDA) (io) "GPIO2", 92 GP21 (SCL) (io) "GPIO2", 93 AGND (power), 94 -5Vin (in) "Hardware Monitor 0..4.096V", 95 -12Vin (in) "Hardware Monitor 0..4.096V", 96 +12Vin (in) "Hardware Monitor 0..4.096V", 97 AVCC (power) "Analog", 98 +3.3Vin (in) "Hardware Monitor 0..4.096V", 99 VcoreB (in) "Hardware Monitor 0..4.096V", 100 VcoreA (in) "Hardware Monitor 0..4.096V", 101 VREF (power) "Hardware Monitor", 102 VTIN3 (in) "Hardware Monitor", 103 VTIN2 (in) "Hardware Monitor", 104 VTIN1 (in) "Hardware Monitor", 105 OVT# (out) "Hardware Monitor", 106 VID4 (io) "Hardware Monitor", 107 VID3 (io) "Hardware Monitor", 108 VID2 (io) "Hardware Monitor", 109 VID1 (io) "Hardware Monitor", 110 VID0 (io) "Hardware Monitor", 111 FANIO3 (out) "Hardware Monitor", 112 FANIO2 (out) "Hardware Monitor", 113 FANIO1 (out) "Hardware Monitor", 114 VCC (power) "+5V", 115 FANPWM2 (out) "Hardware Monitor", 116 FANPWM1 (out) "Hardware Monitor", 117 VSS (power) "GND", 118 BEEP (out) "Hardware Monitor", 119 MSI (GP20) (io) "Game Port & MIDI Port", 120 MSO (IRQIN0) (io) "Game Port & MIDI Port", 121 GPSA2 (GP17) (io) "Game Port & MIDI Port", 122 GPSB2 (GP16) (io) "Game Port & MIDI Port", 123 GPY1 (GP15) (io) "Game Port & MIDI Port", 124 GPY2 (GP14/P16) (io) "Game Port & MIDI Port", 125 GPX2 (GP13/P15) (io) "Game Port & MIDI Port", 126 GPX1 (GP12/P14) (io) "Game Port & MIDI Port", 127 GPSB1 (GP11/P13) (io) "Game Port & MIDI Port", 128 GPSA1 (GP10/P12) (io) "Game Port & MIDI Port"
part B pins: 31 SLCT (WE#) (io) "Parallel Port", 32 PE (WD#) (io) "Parallel Port", 33 BUSY (MOB2#) (io) "Parallel Port", 34 ACK# (DSB2#) (io) "Parallel Port", 35 PD7 (DSA2#) (io) "Parallel Port", 36 PD6 (MOA2#) (io) "Parallel Port", 37 PD5 (io) "Parallel Port", 38 PD4 (DSKCHG2#) (io) "Parallel Port", 39 PD3 (RDATA2#) (io) "Parallel Port", 40 PD2 (WP2#) (io) "Parallel Port", 41 PD1 (TRACK02#) (io) "Parallel Port", 42 PD0 (INDEX2#) (io) "Parallel Port", 43 SLIN# (STEP2#) (out) "Parallel Port", 44 INIT# (DIR2#) (out) "Parallel Port", 45 ERR# (HEAD2#) (io) "Parallel Port", 46 AFD# (DRVEN0) (out) "Parallel Port", 47 STB# (out) "Parallel Port", 49 CTSA# (in) "Serial Port", 50 DSRA# (in) "Serial Port", 51 RTSA# (HEFRAS) (io) "Serial Port", 52 DTRA# (PNPCVS#) (io) "Serial Port", 53 RxDA# (in) "Serial Port", 54 TxDA# (PENKBC) (io) "Serial Port", 56 DCDA# (in) "Serial Port", 57 RIA# (in) "Serial Port", 62 KCLK (io) "KBC Interface", 63 KDAT (io) "KBC Interface", 65 MCLK (io) "KBC Interface", 66 MDAT (io) "KBC Interface", 78 CTSB# (in) "Serial Port", 79 DSRB# (in) "Serial Port", 80 RTSB# (out) "Serial Port", 81 DTRB# (out) "Serial Port", 82 RxDB# (in) "Serial Port", 83 TxDB# (PEN48) (io) "Serial Port", 84 DCDB# (in) "Serial Port", 85 RIB# (in) "Serial Port"

## WDT_STWD100NPWY3F
designator U?, comment value STWD100NPWY3F  (hidden comment: STWD100NPWY3F, ST)
HelpURL: L:\Dev\Техническая документация\WatchDogTimers\ST\stwd100.pdf
footprint SOT23-5
pins: 1 nWDO (oc), 2 GND (power), 3 nEN (in), 4 WDI (in), 5 Vcc (power)

## WE7446622002
designator L?
footprint IND_WE7446622002
pins: 1, 2, 3, 4

## WE7446622002_1
designator L?
footprint IND_WE7446622002
pins: 1, 2, 3, 4

## WPC_bp50002
designator U?, comment BQ50002RHB
HelpURL: L:\Dev\Техническая документация\Wireless\Qi\TI\bq50002.pdf; ComponentLink1Description: Reference Disign; ComponentLink1URL: L:\Dev\Техническая документация\Wireless\Qi\TI\ref_design_bq50002.pdf
footprint PVQFN-N32
pins: 0 PowerPad, 1 PWM1/CLK_IN (in), 2 PWM_CTRL (in), 3 EN (in), 4 BP3 (out), 5 GND (power), 6 GND (power), 7 DMOUT2 (out), 8 DMOUT1 (out), 9 CLK_OUT (out), 10 MODE (in), 11 DMIN1 (in), 12 DMIN2 (in), 13 GND (power), 14 PVIN2, 15 PVIN2, 16 BOOT2 (io), 17 SW2 (out), 18 SW2 (out), 19 SW2 (out), 20 PGND (power), 21 PGND (power), 22 PGND (power), 23 SW1 (out), 24 SW1 (out), 25 BOOT1 (io), 26 SW1 (out), 27 PVIN1, 28 PVIN1, 29 CSN (in), 30 CSP (in), 31 CSO (out), 32 PWM2/UP_DN (in)

## КИПД-117
designator D
footprint КИПД-117
pins: 1, 2, 3, 4, 5, 6, 7, 8, 9, 10, 11, 12, 13, 14, 15, 16, 17, 18, 19, 20

## Клеммник
designator *
pins: 9 +, 10 -

## КП293КП1
designator U?, comment КП293КП1А
footprint DIP6
pins: 1, 2, 3, 4, 5, 6

## КР293КП1
designator U?
footprint DIP6
pins: 1, 2, 3, 4, 5, 6

## КР293КП9Б
designator U?
footprint DIP8
pins: 1, 2, 3, 4, 5, 6, 7, 8

## Сборка резисторов 8 SIL
designator R?, comment НР-1-4-8М (4609X-101)  (value not drawn)
footprint SIL-9
pins: 1, 2, 3, 4, 5, 6, 7, 8, 9

## ТПГ-1-12
designator L
footprint ТПГ-1-12
pins: 1, 5, 7, 9

## ФДУК-200
designator FD?
footprint FDUK-200
pins: 1, 2, 3, 4, 5, 6